# Altium footprint library PCB_Node_breakout.PcbLib: 2 footprints
Each footprint in its own frame and in the unit in brackets; x right, y up, seen from the top. Pads: shape width x height; smd on the part's side, far side on the other; paste and mask are expansions set on the pad; w line width, h text height; cw(c..) or ccw(c..) is an arc to the next point about the centre after c.
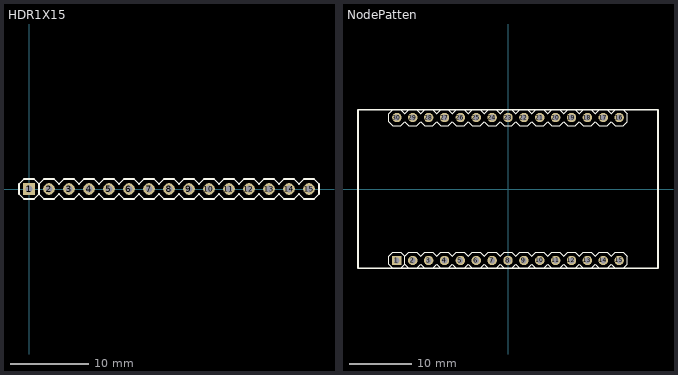
[diagram p0: the footprints below, top view; thin cyan lines are the x and y axes]

## HDR1X15 [mm]
height 9
pads (15):
  rect 1.5x1.5 hole 0.9: 1(0,0)
  round 1.5 hole 0.9: 2(2.54,0) 3(5.08,0) 4(7.62,0) 5(10.16,0) 6(12.7,0) 7(15.24,0) 8(17.78,0) 9(20.32,0) 10(22.86,0) 11(25.4,0) 12(27.94,0) 13(30.48,0) 14(33.02,0) 15(35.56,0)
Top Overlay:
  lines w0.2: 1.27,-0.635 1.27,0 1.27,0.635 ; 1.27,-0.635 0.635,-1.27 -0.635,-1.27 -1.27,-0.635 -1.27,0 -1.27,0.635 -0.635,1.27 0.635,1.27 1.27,0.635 ; 1.27,-0.635 1.905,-1.27 3.175,-1.27 3.81,-0.635 4.445,-1.27 5.715,-1.27 6.35,-0.635 6.985,-1.27 8.255,-1.27 8.89,-0.635 9.525,-1.27 10.795,-1.27 11.43,-0.635 12.065,-1.27 13.335,-1.27 13.97,-0.635 14.605,-1.27 15.875,-1.27 16.51,-0.635 17.145,-1.27 18.415,-1.27 19.05,-0.635 19.685,-1.27 20.955,-1.27 21.59,-0.635 22.225,-1.27 23.495,-1.27 24.13,-0.635 24.765,-1.27 26.035,-1.27 26.67,-0.635 27.305,-1.27 28.575,-1.27 29.21,-0.635 29.845,-1.27 31.115,-1.27 31.75,-0.635 32.385,-1.27 33.655,-1.27 34.29,-0.635 34.925,-1.27 36.195,-1.27 36.83,-0.635 36.83,0 36.83,0.635 36.195,1.27 34.925,1.27 34.29,0.635 33.655,1.27 32.385,1.27 31.75,0.635 31.115,1.27 29.845,1.27 29.21,0.635 28.575,1.27 27.305,1.27 26.67,0.635 26.035,1.27 24.765,1.27 24.13,0.635 23.495,1.27 22.225,1.27 21.59,0.635 20.955,1.27 19.685,1.27 19.05,0.635 18.415,1.27 17.145,1.27 16.51,0.635 15.875,1.27 14.605,1.27 13.97,0.635 13.335,1.27 12.065,1.27 11.43,0.635 10.795,1.27 9.525,1.27 8.89,0.635 8.255,1.27 6.985,1.27 6.35,0.635 5.715,1.27 4.445,1.27 3.81,0.635 3.175,1.27 1.905,1.27 1.27,0.635

## NodePatten [mm]
pads (30):
  rect 1.5x1.5 hole 0.9: 1(-17.78,-11.43)
  round 1.5 hole 0.9: 2(-15.24,-11.43) 3(-12.7,-11.43) 4(-10.16,-11.43) 5(-7.62,-11.43) 6(-5.08,-11.43) 7(-2.54,-11.43) 8(0,-11.43) 9(2.54,-11.43) 10(5.08,-11.43) 11(7.62,-11.43) 12(10.16,-11.43) 13(12.7,-11.43) 14(15.24,-11.43) 15(17.78,-11.43) 16(17.78,11.43) 17(15.24,11.43) 18(12.7,11.43) 19(10.16,11.43) 20(7.62,11.43) 21(5.08,11.43) 22(2.54,11.43) 23(0,11.43) 24(-2.54,11.43) 25(-5.08,11.43) 26(-7.62,11.43) 27(-10.16,11.43) 28(-12.7,11.43) 29(-15.24,11.43) 30(-17.78,11.43)
Top Overlay:
  drawing of 195 lines, arcs and shapes, not listed